# Altium schematic symbol library MCU_NXP_S08.SchLib: 189 symbols (part 3 of 3)
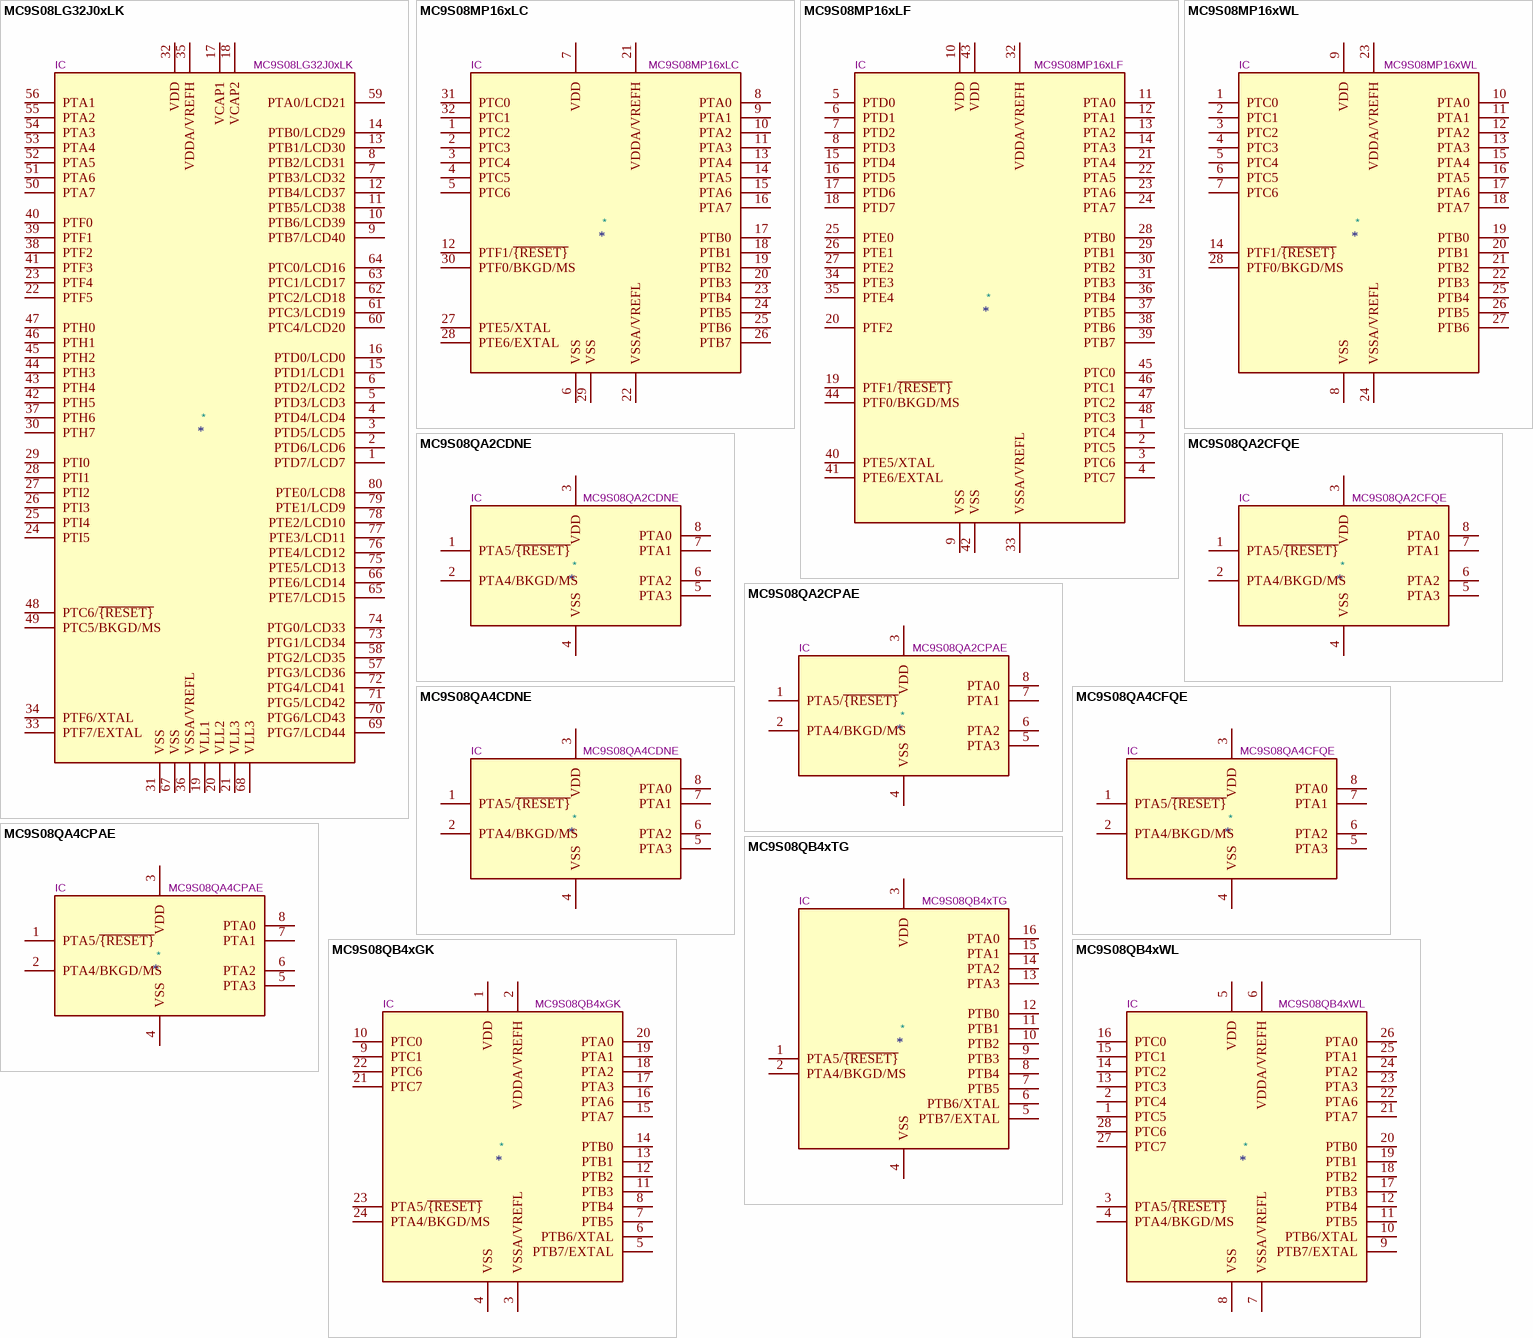
[diagram p21: symbols MC9S08LG32J0xLK to MC9S08QB4xWL]

## MC9S08QB4xTG
designator *  value MC9S08QB4xTG  Reference: IC
ki_keywords: NXP S08 Microcontroller; ki_description: 8-bit General Purpose Microcontroller, S08 core, 4kB Flash, 256B RAM, TSSOP-16; ki_fp_filters: TSSOP*4.4x5mm*P0.65mm*; Footprint: Package_SO:TSSOP-16_4.4x5mm_P0.65mm; Datasheet: https://www.nxp.com/docs/en/reference-manual/MC9S08QB8RM.pdf
pins: 1 PTA5/~{{RESET}}, 2 PTA4/BKGD/MS, 3 VDD, 4 VSS, 5 PTB7/EXTAL, 6 PTB6/XTAL, 7 PTB5, 8 PTB4, 9 PTB3, 10 PTB2, 11 PTB1, 12 PTB0, 13 PTA3, 14 PTA2, 15 PTA1, 16 PTA0

## MC9S08QB4xWL
designator *  value MC9S08QB4xWL  Reference: IC
ki_keywords: NXP S08 Microcontroller; ki_description: 8-bit General Purpose Microcontroller, S08 core, 4kB Flash, 256B RAM, SOIC-28; ki_fp_filters: SOIC*7.5x17.9mm*P1.27mm*; Footprint: Package_SO:SOIC-28W_7.5x17.9mm_P1.27mm; Datasheet: https://www.nxp.com/docs/en/reference-manual/MC9S08QB8RM.pdf
pins: 1 PTC5, 2 PTC4, 3 PTA5/~{{RESET}}, 4 PTA4/BKGD/MS, 5 VDD, 6 VDDA/VREFH, 7 VSSA/VREFL, 8 VSS, 9 PTB7/EXTAL, 10 PTB6/XTAL, 11 PTB5, 12 PTB4, 13 PTC3, 14 PTC2, 15 PTC1, 16 PTC0, 17 PTB3, 18 PTB2, 19 PTB1, 20 PTB0, 21 PTA7, 22 PTA6, 23 PTA3, 24 PTA2, 25 PTA1, 26 PTA0, 27 PTC7, 28 PTC6

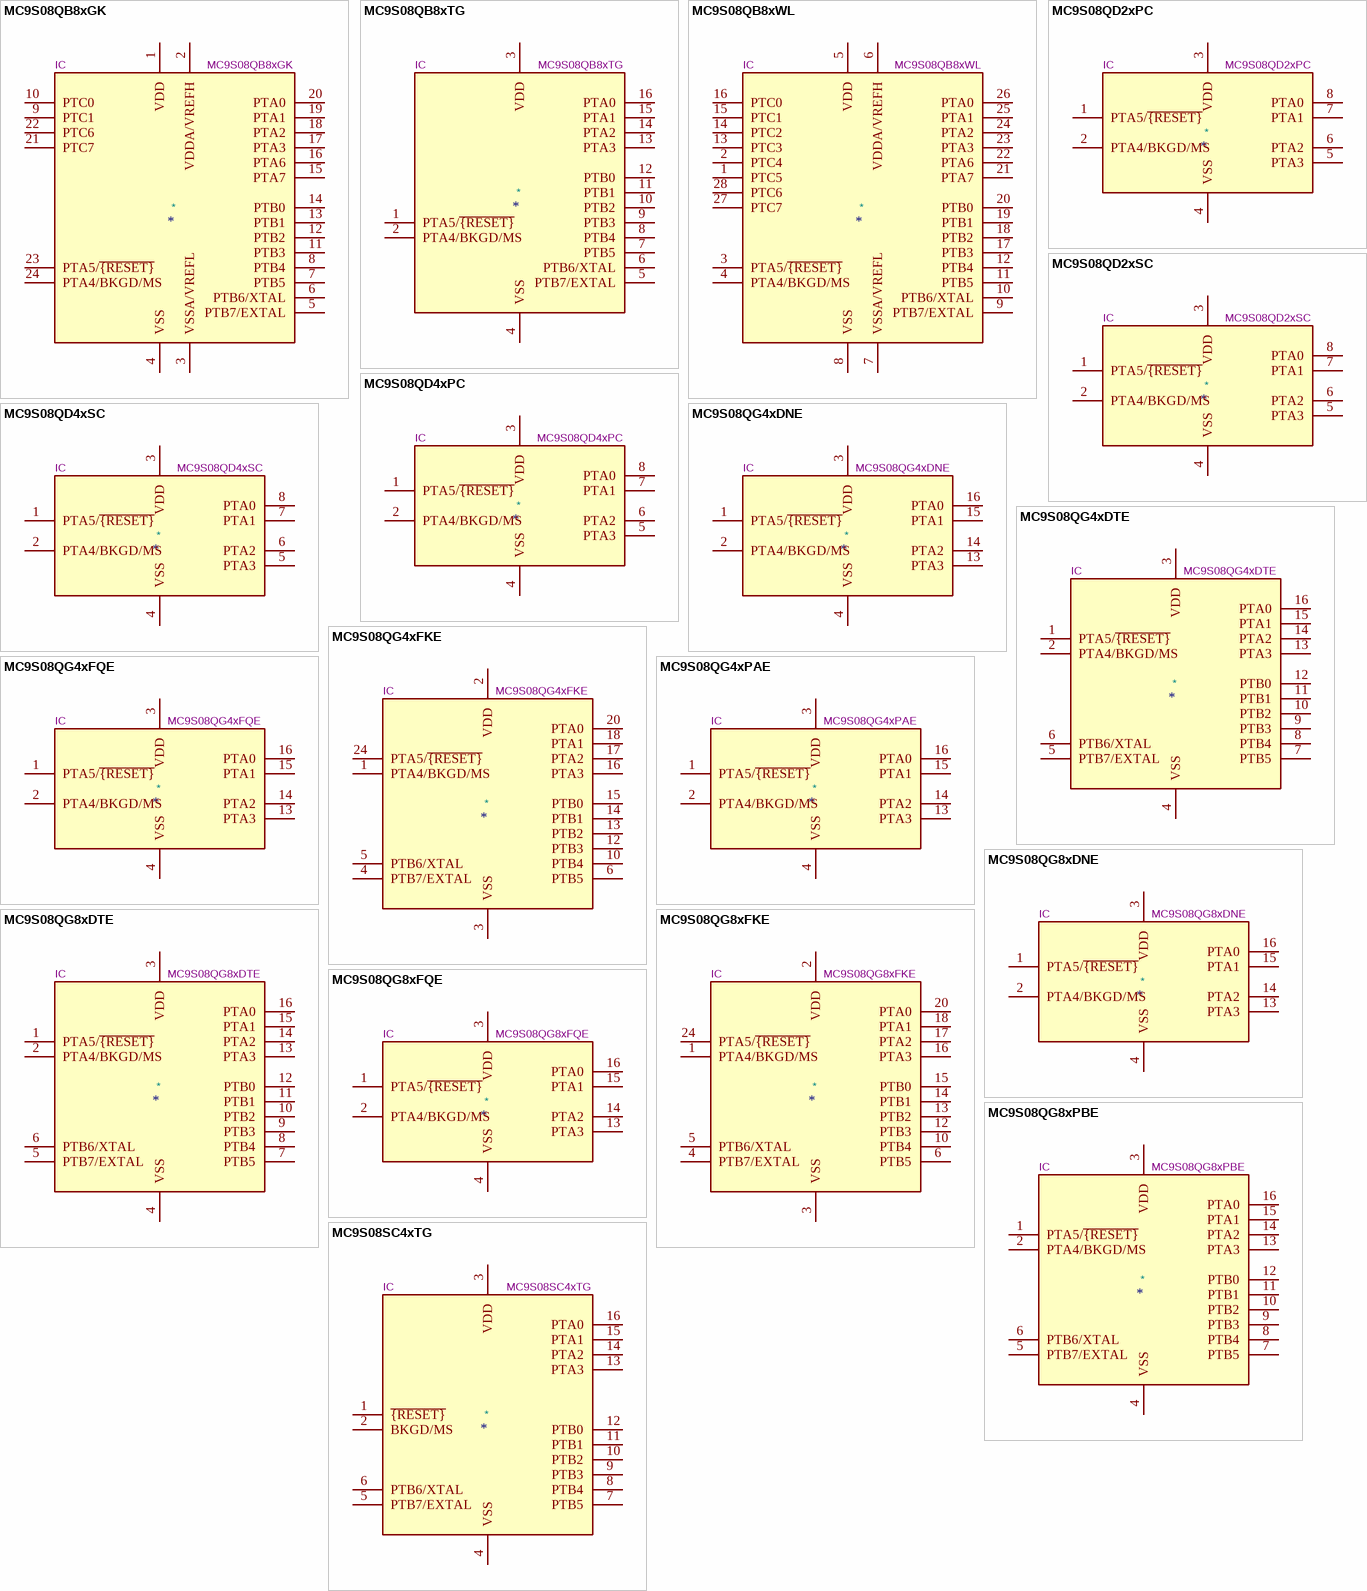
[diagram p15: symbols MC9S08QB8xGK to MC9S08SC4xTG]

## MC9S08QB8xGK
designator *  value MC9S08QB8xGK  Reference: IC
ki_keywords: NXP S08 Microcontroller; ki_description: 8-bit General Purpose Microcontroller, S08 core, 8kB Flash, 512B RAM, QFN-24; ki_fp_filters: QFN*1EP*5x5mm*P0.65mm*; Footprint: Package_DFN_QFN:QFN-24-1EP_5x5mm_P0.65mm_EP3.6x3.6mm; Datasheet: https://www.nxp.com/docs/en/reference-manual/MC9S08QB8RM.pdf
pins: 1 VDD, 2 VDDA/VREFH, 3 VSSA/VREFL, 4 VSS, 5 PTB7/EXTAL, 6 PTB6/XTAL, 7 PTB5, 8 PTB4, 9 PTC1, 10 PTC0, 11 PTB3, 12 PTB2, 13 PTB1, 14 PTB0, 15 PTA7, 16 PTA6, 17 PTA3, 18 PTA2, 19 PTA1, 20 PTA0, 21 PTC7, 22 PTC6, 23 PTA5/~{{RESET}}, 24 PTA4/BKGD/MS

## MC9S08QB8xTG
designator *  value MC9S08QB8xTG  Reference: IC
ki_keywords: NXP S08 Microcontroller; ki_description: 8-bit General Purpose Microcontroller, S08 core, 8kB Flash, 512B RAM, TSSOP-16; ki_fp_filters: TSSOP*4.4x5mm*P0.65mm*; Footprint: Package_SO:TSSOP-16_4.4x5mm_P0.65mm; Datasheet: https://www.nxp.com/docs/en/reference-manual/MC9S08QB8RM.pdf
pins: 1 PTA5/~{{RESET}}, 2 PTA4/BKGD/MS, 3 VDD, 4 VSS, 5 PTB7/EXTAL, 6 PTB6/XTAL, 7 PTB5, 8 PTB4, 9 PTB3, 10 PTB2, 11 PTB1, 12 PTB0, 13 PTA3, 14 PTA2, 15 PTA1, 16 PTA0

## MC9S08QB8xWL
designator *  value MC9S08QB8xWL  Reference: IC
ki_keywords: NXP S08 Microcontroller; ki_description: 8-bit General Purpose Microcontroller, S08 core, 8kB Flash, 512B RAM, SOIC-28; ki_fp_filters: SOIC*7.5x17.9mm*P1.27mm*; Footprint: Package_SO:SOIC-28W_7.5x17.9mm_P1.27mm; Datasheet: https://www.nxp.com/docs/en/reference-manual/MC9S08QB8RM.pdf
pins: 1 PTC5, 2 PTC4, 3 PTA5/~{{RESET}}, 4 PTA4/BKGD/MS, 5 VDD, 6 VDDA/VREFH, 7 VSSA/VREFL, 8 VSS, 9 PTB7/EXTAL, 10 PTB6/XTAL, 11 PTB5, 12 PTB4, 13 PTC3, 14 PTC2, 15 PTC1, 16 PTC0, 17 PTB3, 18 PTB2, 19 PTB1, 20 PTB0, 21 PTA7, 22 PTA6, 23 PTA3, 24 PTA2, 25 PTA1, 26 PTA0, 27 PTC7, 28 PTC6

## MC9S08QD2xPC
designator *  value MC9S08QD2xPC  Reference: IC
ki_keywords: NXP S08 Microcontroller; ki_description: 8-bit Small Package Microcontroller, S08 core, 2kB Flash, 128B RAM, DIP-8; ki_fp_filters: DIP*7.62mm*; Footprint: Package_DIP:DIP-8_W7.62mm; Datasheet: https://www.nxp.com/docs/en/data-sheet/MC9S08QD4.pdf
pins: 1 PTA5/~{{RESET}}, 2 PTA4/BKGD/MS, 3 VDD, 4 VSS, 5 PTA3, 6 PTA2, 7 PTA1, 8 PTA0

## MC9S08QD2xSC
designator *  value MC9S08QD2xSC  Reference: IC
ki_keywords: NXP S08 Microcontroller; ki_description: 8-bit Small Package Microcontroller, S08 core, 2kB Flash, 128B RAM, SOIC-8; ki_fp_filters: SOIC*3.9x4.9mm*P1.27mm*; Footprint: Package_SO:SOIC-8_3.9x4.9mm_P1.27mm; Datasheet: https://www.nxp.com/docs/en/data-sheet/MC9S08QD4.pdf
pins: 1 PTA5/~{{RESET}}, 2 PTA4/BKGD/MS, 3 VDD, 4 VSS, 5 PTA3, 6 PTA2, 7 PTA1, 8 PTA0

## MC9S08QD4xPC
designator *  value MC9S08QD4xPC  Reference: IC
ki_keywords: NXP S08 Microcontroller; ki_description: 8-bit Small Package Microcontroller, S08 core, 4kB Flash, 256B RAM, DIP-8; ki_fp_filters: DIP*7.62mm*; Footprint: Package_DIP:DIP-8_W7.62mm; Datasheet: https://www.nxp.com/docs/en/data-sheet/MC9S08QD4.pdf
pins: 1 PTA5/~{{RESET}}, 2 PTA4/BKGD/MS, 3 VDD, 4 VSS, 5 PTA3, 6 PTA2, 7 PTA1, 8 PTA0

## MC9S08QD4xSC
designator *  value MC9S08QD4xSC  Reference: IC
ki_keywords: NXP S08 Microcontroller; ki_description: 8-bit Small Package Microcontroller, S08 core, 4kB Flash, 256B RAM, SOIC-8; ki_fp_filters: SOIC*3.9x4.9mm*P1.27mm*; Footprint: Package_SO:SOIC-8_3.9x4.9mm_P1.27mm; Datasheet: https://www.nxp.com/docs/en/data-sheet/MC9S08QD4.pdf
pins: 1 PTA5/~{{RESET}}, 2 PTA4/BKGD/MS, 3 VDD, 4 VSS, 5 PTA3, 6 PTA2, 7 PTA1, 8 PTA0

## MC9S08QG4xDNE
designator *  value MC9S08QG4xDNE  Reference: IC
ki_keywords: NXP S08 Microcontroller; ki_description: 8-bit Small Package Microcontroller, S08 core, 4kB Flash, 256B RAM, SOIC-8; ki_fp_filters: SOIC*3.9x4.9mm*P1.27mm*; Footprint: Package_SO:SOIC-8_3.9x4.9mm_P1.27mm; Datasheet: https://www.nxp.com/docs/en/data-sheet/MC9S08QG8.pdf
pins: 1 PTA5/~{{RESET}}, 2 PTA4/BKGD/MS, 3 VDD, 4 VSS, 13 PTA3, 14 PTA2, 15 PTA1, 16 PTA0

## MC9S08QG4xDTE
designator *  value MC9S08QG4xDTE  Reference: IC
ki_keywords: NXP S08 Microcontroller; ki_description: 8-bit Small Package Microcontroller, S08 core, 4kB Flash, 256B RAM, TSSOP-16; ki_fp_filters: TSSOP*4.4x5mm*P0.65mm*; Footprint: Package_SO:TSSOP-16_4.4x5mm_P0.65mm; Datasheet: https://www.nxp.com/docs/en/data-sheet/MC9S08QG8.pdf
pins: 1 PTA5/~{{RESET}}, 2 PTA4/BKGD/MS, 3 VDD, 4 VSS, 5 PTB7/EXTAL, 6 PTB6/XTAL, 7 PTB5, 8 PTB4, 9 PTB3, 10 PTB2, 11 PTB1, 12 PTB0, 13 PTA3, 14 PTA2, 15 PTA1, 16 PTA0

## MC9S08QG4xFKE
designator *  value MC9S08QG4xFKE  Reference: IC
ki_keywords: NXP S08 Microcontroller; ki_description: 8-bit Small Package Microcontroller, S08 core, 4kB Flash, 256B RAM, QFN-24; ki_fp_filters: QFN*4x4mm*P0.5mm*; Footprint: Package_DFN_QFN:QFN-24-1EP_4x4mm_P0.5mm_EP2.6x2.6mm; Datasheet: https://www.nxp.com/docs/en/data-sheet/MC9S08QG8.pdf
pins: 1 PTA4/BKGD/MS, 2 VDD, 3 VSS, 4 PTB7/EXTAL, 5 PTB6/XTAL, 6 PTB5, 10 PTB4, 12 PTB3, 13 PTB2, 14 PTB1, 15 PTB0, 16 PTA3, 17 PTA2, 18 PTA1, 20 PTA0, 24 PTA5/~{{RESET}}

## MC9S08QG4xFQE
designator *  value MC9S08QG4xFQE  Reference: IC
ki_keywords: NXP S08 Microcontroller; ki_description: 8-bit Small Package Microcontroller, S08 core, 4kB Flash, 256B RAM, DFN-8; ki_fp_filters: DFN*4x4mm*P0.8mm*; Footprint: Package_DFN_QFN:DFN-8-1EP_4x4mm_P0.8mm_EP2.5x3.6mm; Datasheet: https://www.nxp.com/docs/en/data-sheet/MC9S08QG8.pdf
pins: 1 PTA5/~{{RESET}}, 2 PTA4/BKGD/MS, 3 VDD, 4 VSS, 13 PTA3, 14 PTA2, 15 PTA1, 16 PTA0

## MC9S08QG4xPAE
designator *  value MC9S08QG4xPAE  Reference: IC
ki_keywords: NXP S08 Microcontroller; ki_description: 8-bit Small Package Microcontroller, S08 core, 4kB Flash, 256B RAM, DIP-8; ki_fp_filters: DIP*7.62mm*; Footprint: Package_DIP:DIP-8_W7.62mm; Datasheet: https://www.nxp.com/docs/en/data-sheet/MC9S08QG8.pdf
pins: 1 PTA5/~{{RESET}}, 2 PTA4/BKGD/MS, 3 VDD, 4 VSS, 13 PTA3, 14 PTA2, 15 PTA1, 16 PTA0

## MC9S08QG8xDNE
designator *  value MC9S08QG8xDNE  Reference: IC
ki_keywords: NXP S08 Microcontroller; ki_description: 8-bit Small Package Microcontroller, S08 core, 8kB Flash, 512B RAM, SOIC-8; ki_fp_filters: SOIC*3.9x4.9mm*P1.27mm*; Footprint: Package_SO:SOIC-8_3.9x4.9mm_P1.27mm; Datasheet: https://www.nxp.com/docs/en/data-sheet/MC9S08QG8.pdf
pins: 1 PTA5/~{{RESET}}, 2 PTA4/BKGD/MS, 3 VDD, 4 VSS, 13 PTA3, 14 PTA2, 15 PTA1, 16 PTA0

## MC9S08QG8xDTE
designator *  value MC9S08QG8xDTE  Reference: IC
ki_keywords: NXP S08 Microcontroller; ki_description: 8-bit Small Package Microcontroller, S08 core, 8kB Flash, 512B RAM, TSSOP-16; ki_fp_filters: TSSOP*4.4x5mm*P0.65mm*; Footprint: Package_SO:TSSOP-16_4.4x5mm_P0.65mm; Datasheet: https://www.nxp.com/docs/en/data-sheet/MC9S08QG8.pdf
pins: 1 PTA5/~{{RESET}}, 2 PTA4/BKGD/MS, 3 VDD, 4 VSS, 5 PTB7/EXTAL, 6 PTB6/XTAL, 7 PTB5, 8 PTB4, 9 PTB3, 10 PTB2, 11 PTB1, 12 PTB0, 13 PTA3, 14 PTA2, 15 PTA1, 16 PTA0

## MC9S08QG8xFKE
designator *  value MC9S08QG8xFKE  Reference: IC
ki_keywords: NXP S08 Microcontroller; ki_description: 8-bit Small Package Microcontroller, S08 core, 8kB Flash, 512B RAM, QFN-24; ki_fp_filters: QFN*4x4mm*P0.5mm*; Footprint: Package_DFN_QFN:QFN-24-1EP_4x4mm_P0.5mm_EP2.6x2.6mm; Datasheet: https://www.nxp.com/docs/en/data-sheet/MC9S08QG8.pdf
pins: 1 PTA4/BKGD/MS, 2 VDD, 3 VSS, 4 PTB7/EXTAL, 5 PTB6/XTAL, 6 PTB5, 10 PTB4, 12 PTB3, 13 PTB2, 14 PTB1, 15 PTB0, 16 PTA3, 17 PTA2, 18 PTA1, 20 PTA0, 24 PTA5/~{{RESET}}

## MC9S08QG8xFQE
designator *  value MC9S08QG8xFQE  Reference: IC
ki_keywords: NXP S08 Microcontroller; ki_description: 8-bit Small Package Microcontroller, S08 core, 8kB Flash, 512B RAM, DFN-8; ki_fp_filters: DFN*4x4mm*P0.8mm*; Footprint: Package_DFN_QFN:DFN-8-1EP_4x4mm_P0.8mm_EP2.5x3.6mm; Datasheet: https://www.nxp.com/docs/en/data-sheet/MC9S08QG8.pdf
pins: 1 PTA5/~{{RESET}}, 2 PTA4/BKGD/MS, 3 VDD, 4 VSS, 13 PTA3, 14 PTA2, 15 PTA1, 16 PTA0

## MC9S08QG8xPBE
designator *  value MC9S08QG8xPBE  Reference: IC
ki_keywords: NXP S08 Microcontroller; ki_description: 8-bit Small Package Microcontroller, S08 core, 8kB Flash, 512B RAM, DIP-16; ki_fp_filters: DIP*7.62mm*; Footprint: Package_DIP:DIP-16_W7.62mm; Datasheet: https://www.nxp.com/docs/en/data-sheet/MC9S08QG8.pdf
pins: 1 PTA5/~{{RESET}}, 2 PTA4/BKGD/MS, 3 VDD, 4 VSS, 5 PTB7/EXTAL, 6 PTB6/XTAL, 7 PTB5, 8 PTB4, 9 PTB3, 10 PTB2, 11 PTB1, 12 PTB0, 13 PTA3, 14 PTA2, 15 PTA1, 16 PTA0

## MC9S08SC4xTG
designator *  value MC9S08SC4xTG  Reference: IC
ki_keywords: NXP S08 Microcontroller; ki_description: 8-bit Small Package Microcontroller, S08 core, 4kB Flash, 256B RAM, TSSOP-16; ki_fp_filters: TSSOP*4.4x5mm*P0.65mm*; Footprint: Package_SO:TSSOP-16_4.4x5mm_P0.65mm; Datasheet: https://www.nxp.com/docs/en/data-sheet/MC9S08SC4.pdf
pins: 1 ~{{RESET}}, 2 BKGD/MS, 3 VDD, 4 VSS, 5 PTB7/EXTAL, 6 PTB6/XTAL, 7 PTB5, 8 PTB4, 9 PTB3, 10 PTB2, 11 PTB1, 12 PTB0, 13 PTA3, 14 PTA2, 15 PTA1, 16 PTA0

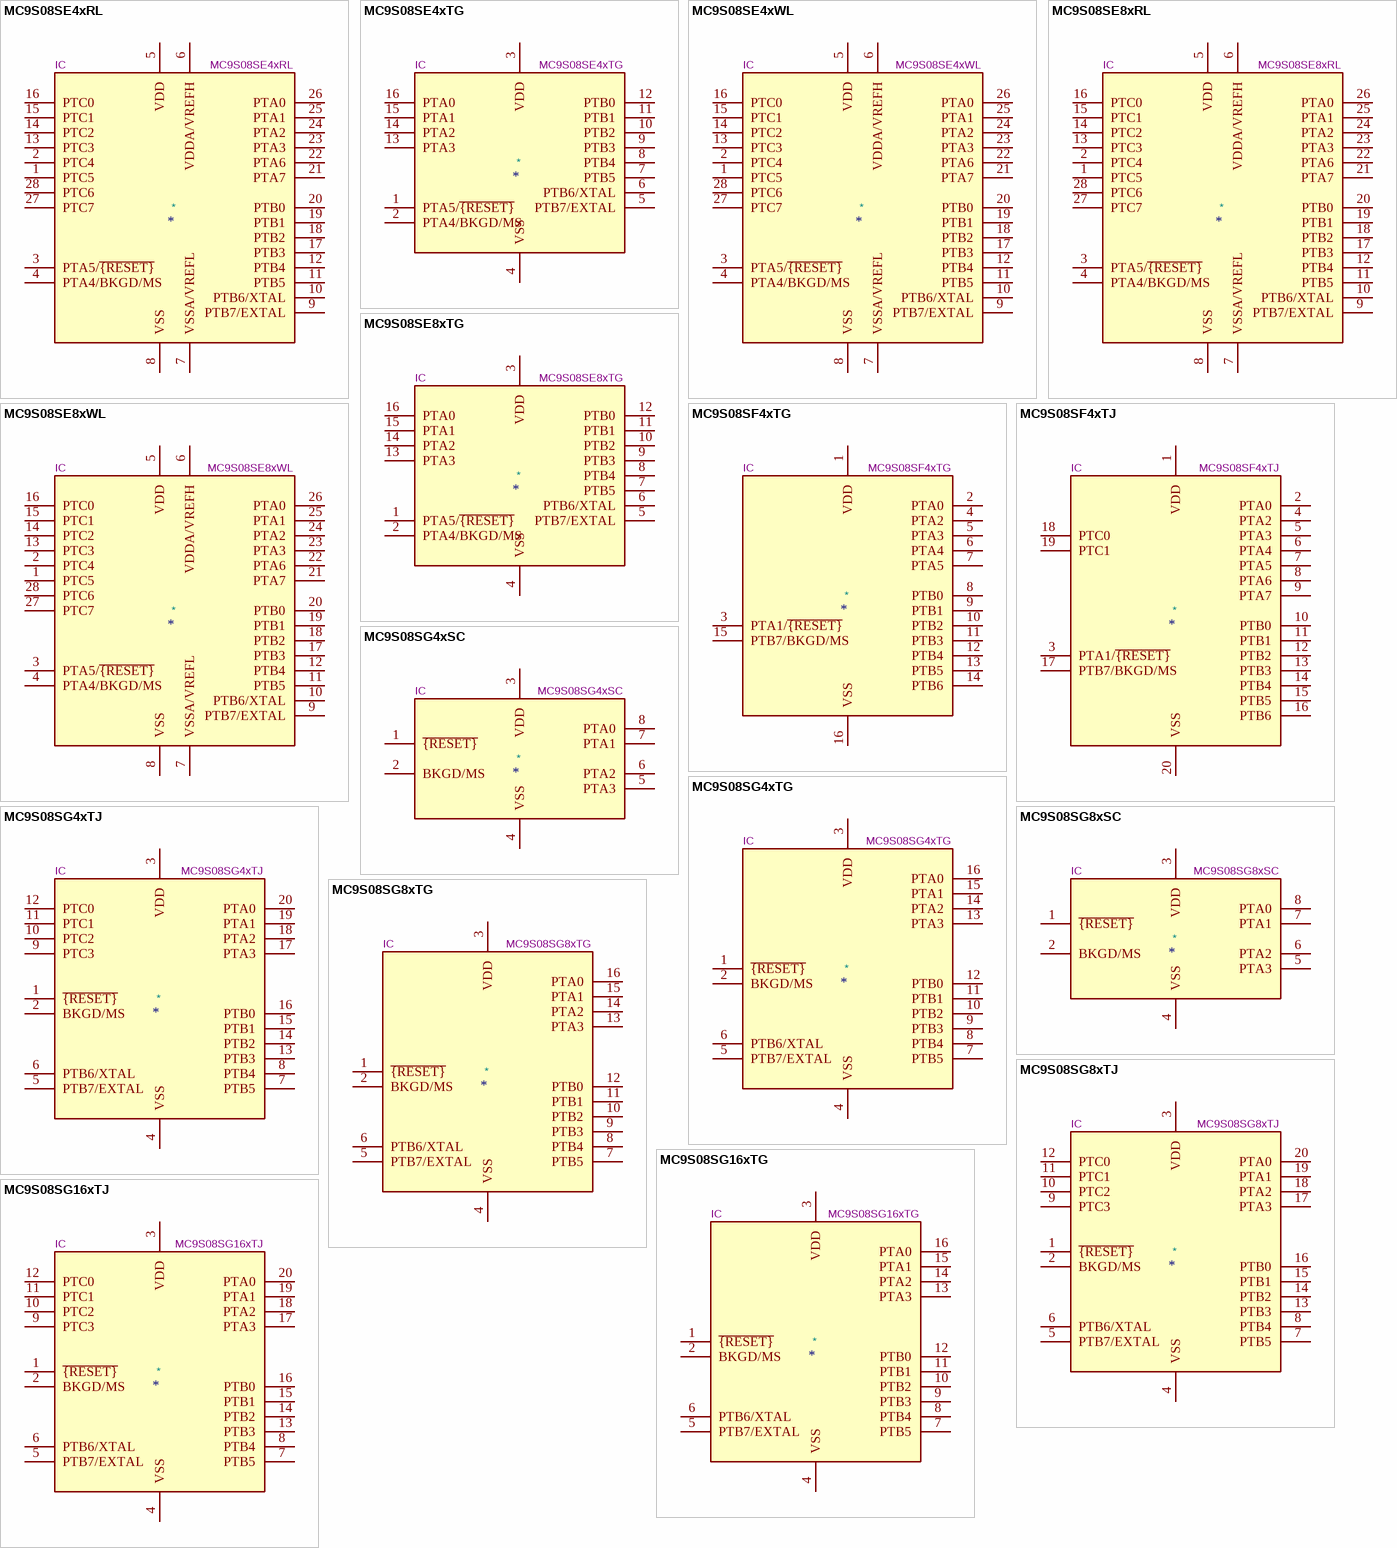
[diagram p16: symbols MC9S08SE4xRL to MC9S08SG16xTJ]

## MC9S08SE4xRL
designator *  value MC9S08SE4xRL  Reference: IC
ki_keywords: NXP S08 Microcontroller; ki_description: 8-bit General Purpose Microcontroller, S08 core, 4kB Flash, 256B RAM, DIP-28; ki_fp_filters: DIP*15.24mm*; Footprint: Package_DIP:DIP-28_W15.24mm; Datasheet: https://www.nxp.com/docs/en/reference-manual/MC9S08SE8RM.pdf
pins: 1 PTC5, 2 PTC4, 3 PTA5/~{{RESET}}, 4 PTA4/BKGD/MS, 5 VDD, 6 VDDA/VREFH, 7 VSSA/VREFL, 8 VSS, 9 PTB7/EXTAL, 10 PTB6/XTAL, 11 PTB5, 12 PTB4, 13 PTC3, 14 PTC2, 15 PTC1, 16 PTC0, 17 PTB3, 18 PTB2, 19 PTB1, 20 PTB0, 21 PTA7, 22 PTA6, 23 PTA3, 24 PTA2, 25 PTA1, 26 PTA0, 27 PTC7, 28 PTC6

## MC9S08SE4xTG
designator *  value MC9S08SE4xTG  Reference: IC
ki_keywords: NXP S08 Microcontroller; ki_description: 8-bit General Purpose Microcontroller, S08 core, 4kB Flash, 256B RAM, TSSOP-16; ki_fp_filters: TSSOP*4.4x5mm*P0.65mm*; Footprint: Package_SO:TSSOP-16_4.4x5mm_P0.65mm; Datasheet: https://www.nxp.com/docs/en/reference-manual/MC9S08SE8RM.pdf
pins: 1 PTA5/~{{RESET}}, 2 PTA4/BKGD/MS, 3 VDD, 4 VSS, 5 PTB7/EXTAL, 6 PTB6/XTAL, 7 PTB5, 8 PTB4, 9 PTB3, 10 PTB2, 11 PTB1, 12 PTB0, 13 PTA3, 14 PTA2, 15 PTA1, 16 PTA0

## MC9S08SE4xWL
designator *  value MC9S08SE4xWL  Reference: IC
ki_keywords: NXP S08 Microcontroller; ki_description: 8-bit General Purpose Microcontroller, S08 core, 4kB Flash, 256B RAM, SOIC-28; ki_fp_filters: SOIC*7.5x17.9mm*P1.27mm*; Footprint: Package_SO:SOIC-28W_7.5x17.9mm_P1.27mm; Datasheet: https://www.nxp.com/docs/en/reference-manual/MC9S08SE8RM.pdf
pins: 1 PTC5, 2 PTC4, 3 PTA5/~{{RESET}}, 4 PTA4/BKGD/MS, 5 VDD, 6 VDDA/VREFH, 7 VSSA/VREFL, 8 VSS, 9 PTB7/EXTAL, 10 PTB6/XTAL, 11 PTB5, 12 PTB4, 13 PTC3, 14 PTC2, 15 PTC1, 16 PTC0, 17 PTB3, 18 PTB2, 19 PTB1, 20 PTB0, 21 PTA7, 22 PTA6, 23 PTA3, 24 PTA2, 25 PTA1, 26 PTA0, 27 PTC7, 28 PTC6

## MC9S08SE8xRL
designator *  value MC9S08SE8xRL  Reference: IC
ki_keywords: NXP S08 Microcontroller; ki_description: 8-bit General Purpose Microcontroller, S08 core, 8kB Flash, 512B RAM, DIP-28; ki_fp_filters: DIP*15.24mm*; Footprint: Package_DIP:DIP-28_W15.24mm; Datasheet: https://www.nxp.com/docs/en/reference-manual/MC9S08SE8RM.pdf
pins: 1 PTC5, 2 PTC4, 3 PTA5/~{{RESET}}, 4 PTA4/BKGD/MS, 5 VDD, 6 VDDA/VREFH, 7 VSSA/VREFL, 8 VSS, 9 PTB7/EXTAL, 10 PTB6/XTAL, 11 PTB5, 12 PTB4, 13 PTC3, 14 PTC2, 15 PTC1, 16 PTC0, 17 PTB3, 18 PTB2, 19 PTB1, 20 PTB0, 21 PTA7, 22 PTA6, 23 PTA3, 24 PTA2, 25 PTA1, 26 PTA0, 27 PTC7, 28 PTC6

## MC9S08SE8xTG
designator *  value MC9S08SE8xTG  Reference: IC
ki_keywords: NXP S08 Microcontroller; ki_description: 8-bit General Purpose Microcontroller, S08 core, 8kB Flash, 512B RAM, TSSOP-16; ki_fp_filters: TSSOP*4.4x5mm*P0.65mm*; Footprint: Package_SO:TSSOP-16_4.4x5mm_P0.65mm; Datasheet: https://www.nxp.com/docs/en/reference-manual/MC9S08SE8RM.pdf
pins: 1 PTA5/~{{RESET}}, 2 PTA4/BKGD/MS, 3 VDD, 4 VSS, 5 PTB7/EXTAL, 6 PTB6/XTAL, 7 PTB5, 8 PTB4, 9 PTB3, 10 PTB2, 11 PTB1, 12 PTB0, 13 PTA3, 14 PTA2, 15 PTA1, 16 PTA0

## MC9S08SE8xWL
designator *  value MC9S08SE8xWL  Reference: IC
ki_keywords: NXP S08 Microcontroller; ki_description: 8-bit General Purpose Microcontroller, S08 core, 8kB Flash, 512B RAM, SOIC-28; ki_fp_filters: SOIC*7.5x17.9mm*P1.27mm*; Footprint: Package_SO:SOIC-28W_7.5x17.9mm_P1.27mm; Datasheet: https://www.nxp.com/docs/en/reference-manual/MC9S08SE8RM.pdf
pins: 1 PTC5, 2 PTC4, 3 PTA5/~{{RESET}}, 4 PTA4/BKGD/MS, 5 VDD, 6 VDDA/VREFH, 7 VSSA/VREFL, 8 VSS, 9 PTB7/EXTAL, 10 PTB6/XTAL, 11 PTB5, 12 PTB4, 13 PTC3, 14 PTC2, 15 PTC1, 16 PTC0, 17 PTB3, 18 PTB2, 19 PTB1, 20 PTB0, 21 PTA7, 22 PTA6, 23 PTA3, 24 PTA2, 25 PTA1, 26 PTA0, 27 PTC7, 28 PTC6

## MC9S08SF4xTG
designator *  value MC9S08SF4xTG  Reference: IC
ki_keywords: NXP S08 Microcontroller; ki_description: 8-bit Motor Control Microcontroller, S08 core, 4kB Flash, 128B RAM, TSSOP-20; ki_fp_filters: TSSOP*4.4x5mm*P0.65mm*; Footprint: Package_SO:TSSOP-16_4.4x5mm_P0.65mm; Datasheet: https://www.nxp.com/docs/en/reference-manual/MC9S08SF4RM.pdf
pins: 1 VDD, 2 PTA0, 3 PTA1/~{{RESET}}, 4 PTA2, 5 PTA3, 6 PTA4, 7 PTA5, 8 PTB0, 9 PTB1, 10 PTB2, 11 PTB3, 12 PTB4, 13 PTB5, 14 PTB6, 15 PTB7/BKGD/MS, 16 VSS

## MC9S08SF4xTJ
designator *  value MC9S08SF4xTJ  Reference: IC
ki_keywords: NXP S08 Microcontroller; ki_description: 8-bit Motor Control Microcontroller, S08 core, 4kB Flash, 128B RAM, TSSOP-20; ki_fp_filters: TSSOP*4.4x6.5mm*P0.65mm*; Footprint: Package_SO:TSSOP-20_4.4x6.5mm_P0.65mm; Datasheet: https://www.nxp.com/docs/en/reference-manual/MC9S08SF4RM.pdf
pins: 1 VDD, 2 PTA0, 3 PTA1/~{{RESET}}, 4 PTA2, 5 PTA3, 6 PTA4, 7 PTA5, 8 PTA6, 9 PTA7, 10 PTB0, 11 PTB1, 12 PTB2, 13 PTB3, 14 PTB4, 15 PTB5, 16 PTB6, 17 PTB7/BKGD/MS, 18 PTC0, 19 PTC1, 20 VSS

## MC9S08SG4xSC
designator *  value MC9S08SG4xSC  Reference: IC
ki_keywords: NXP S08 Microcontroller; ki_description: 8-bit Small Package Microcontroller, S08 core, 4kB Flash, 256B RAM, SOIC-8; ki_fp_filters: SOIC*3.9x4.9mm*P1.27mm*; Footprint: Package_SO:SOIC-8_3.9x4.9mm_P1.27mm; Datasheet: https://www.nxp.com/docs/en/data-sheet/MC9S08SG8.pdf
pins: 1 ~{{RESET}}, 2 BKGD/MS, 3 VDD, 4 VSS, 5 PTA3, 6 PTA2, 7 PTA1, 8 PTA0

## MC9S08SG4xTG
designator *  value MC9S08SG4xTG  Reference: IC
ki_keywords: NXP S08 Microcontroller; ki_description: 8-bit Small Package Microcontroller, S08 core, 4kB Flash, 256B RAM, TSSOP-16; ki_fp_filters: TSSOP*4.4x5mm*P0.65mm*; Footprint: Package_SO:TSSOP-16_4.4x5mm_P0.65mm; Datasheet: https://www.nxp.com/docs/en/data-sheet/MC9S08SG8.pdf
pins: 1 ~{{RESET}}, 2 BKGD/MS, 3 VDD, 4 VSS, 5 PTB7/EXTAL, 6 PTB6/XTAL, 7 PTB5, 8 PTB4, 9 PTB3, 10 PTB2, 11 PTB1, 12 PTB0, 13 PTA3, 14 PTA2, 15 PTA1, 16 PTA0

## MC9S08SG4xTJ
designator *  value MC9S08SG4xTJ  Reference: IC
ki_keywords: NXP S08 Microcontroller; ki_description: 8-bit Small Package Microcontroller, S08 core, 4kB Flash, 256B RAM, TSSOP-20; ki_fp_filters: TSSOP*4.4x6.5mm*P0.65mm*; Footprint: Package_SO:TSSOP-20_4.4x6.5mm_P0.65mm; Datasheet: https://www.nxp.com/docs/en/data-sheet/MC9S08SG8.pdf
pins: 1 ~{{RESET}}, 2 BKGD/MS, 3 VDD, 4 VSS, 5 PTB7/EXTAL, 6 PTB6/XTAL, 7 PTB5, 8 PTB4, 9 PTC3, 10 PTC2, 11 PTC1, 12 PTC0, 13 PTB3, 14 PTB2, 15 PTB1, 16 PTB0, 17 PTA3, 18 PTA2, 19 PTA1, 20 PTA0

## MC9S08SG8xSC
designator *  value MC9S08SG8xSC  Reference: IC
ki_keywords: NXP S08 Microcontroller; ki_description: 8-bit Small Package Microcontroller, S08 core, 8kB Flash, 512B RAM, SOIC-8; ki_fp_filters: SOIC*3.9x4.9mm*P1.27mm*; Footprint: Package_SO:SOIC-8_3.9x4.9mm_P1.27mm; Datasheet: https://www.nxp.com/docs/en/data-sheet/MC9S08SG8.pdf
pins: 1 ~{{RESET}}, 2 BKGD/MS, 3 VDD, 4 VSS, 5 PTA3, 6 PTA2, 7 PTA1, 8 PTA0

## MC9S08SG8xTG
designator *  value MC9S08SG8xTG  Reference: IC
ki_keywords: NXP S08 Microcontroller; ki_description: 8-bit Small Package Microcontroller, S08 core, 8kB Flash, 512B RAM, TSSOP-16; ki_fp_filters: TSSOP*4.4x5mm*P0.65mm*; Footprint: Package_SO:TSSOP-16_4.4x5mm_P0.65mm; Datasheet: https://www.nxp.com/docs/en/data-sheet/MC9S08SG8.pdf
pins: 1 ~{{RESET}}, 2 BKGD/MS, 3 VDD, 4 VSS, 5 PTB7/EXTAL, 6 PTB6/XTAL, 7 PTB5, 8 PTB4, 9 PTB3, 10 PTB2, 11 PTB1, 12 PTB0, 13 PTA3, 14 PTA2, 15 PTA1, 16 PTA0

## MC9S08SG8xTJ
designator *  value MC9S08SG8xTJ  Reference: IC
ki_keywords: NXP S08 Microcontroller; ki_description: 8-bit Small Package Microcontroller, S08 core, 8kB Flash, 512B RAM, TSSOP-20; ki_fp_filters: TSSOP*4.4x6.5mm*P0.65mm*; Footprint: Package_SO:TSSOP-20_4.4x6.5mm_P0.65mm; Datasheet: https://www.nxp.com/docs/en/data-sheet/MC9S08SG8.pdf
pins: 1 ~{{RESET}}, 2 BKGD/MS, 3 VDD, 4 VSS, 5 PTB7/EXTAL, 6 PTB6/XTAL, 7 PTB5, 8 PTB4, 9 PTC3, 10 PTC2, 11 PTC1, 12 PTC0, 13 PTB3, 14 PTB2, 15 PTB1, 16 PTB0, 17 PTA3, 18 PTA2, 19 PTA1, 20 PTA0

## MC9S08SG16xTG
designator *  value MC9S08SG16xTG  Reference: IC
ki_keywords: NXP S08 Microcontroller; ki_description: 8-bit Small Package Microcontroller, S08 core, 16kB Flash, 1kB RAM, TSSOP-16; ki_fp_filters: TSSOP*4.4x5mm*P0.65mm*; Footprint: Package_SO:TSSOP-16_4.4x5mm_P0.65mm; Datasheet: https://www.nxp.com/docs/en/data-sheet/MC9S08SG32.pdf
pins: 1 ~{{RESET}}, 2 BKGD/MS, 3 VDD, 4 VSS, 5 PTB7/EXTAL, 6 PTB6/XTAL, 7 PTB5, 8 PTB4, 9 PTB3, 10 PTB2, 11 PTB1, 12 PTB0, 13 PTA3, 14 PTA2, 15 PTA1, 16 PTA0

## MC9S08SG16xTJ
designator *  value MC9S08SG16xTJ  Reference: IC
ki_keywords: NXP S08 Microcontroller; ki_description: 8-bit Small Package Microcontroller, S08 core, 16kB Flash, 1kB RAM, TSSOP-20; ki_fp_filters: TSSOP*4.4x6.5mm*P0.65mm*; Footprint: Package_SO:TSSOP-20_4.4x6.5mm_P0.65mm; Datasheet: https://www.nxp.com/docs/en/data-sheet/MC9S08SG32.pdf
pins: 1 ~{{RESET}}, 2 BKGD/MS, 3 VDD, 4 VSS, 5 PTB7/EXTAL, 6 PTB6/XTAL, 7 PTB5, 8 PTB4, 9 PTC3, 10 PTC2, 11 PTC1, 12 PTC0, 13 PTB3, 14 PTB2, 15 PTB1, 16 PTB0, 17 PTA3, 18 PTA2, 19 PTA1, 20 PTA0

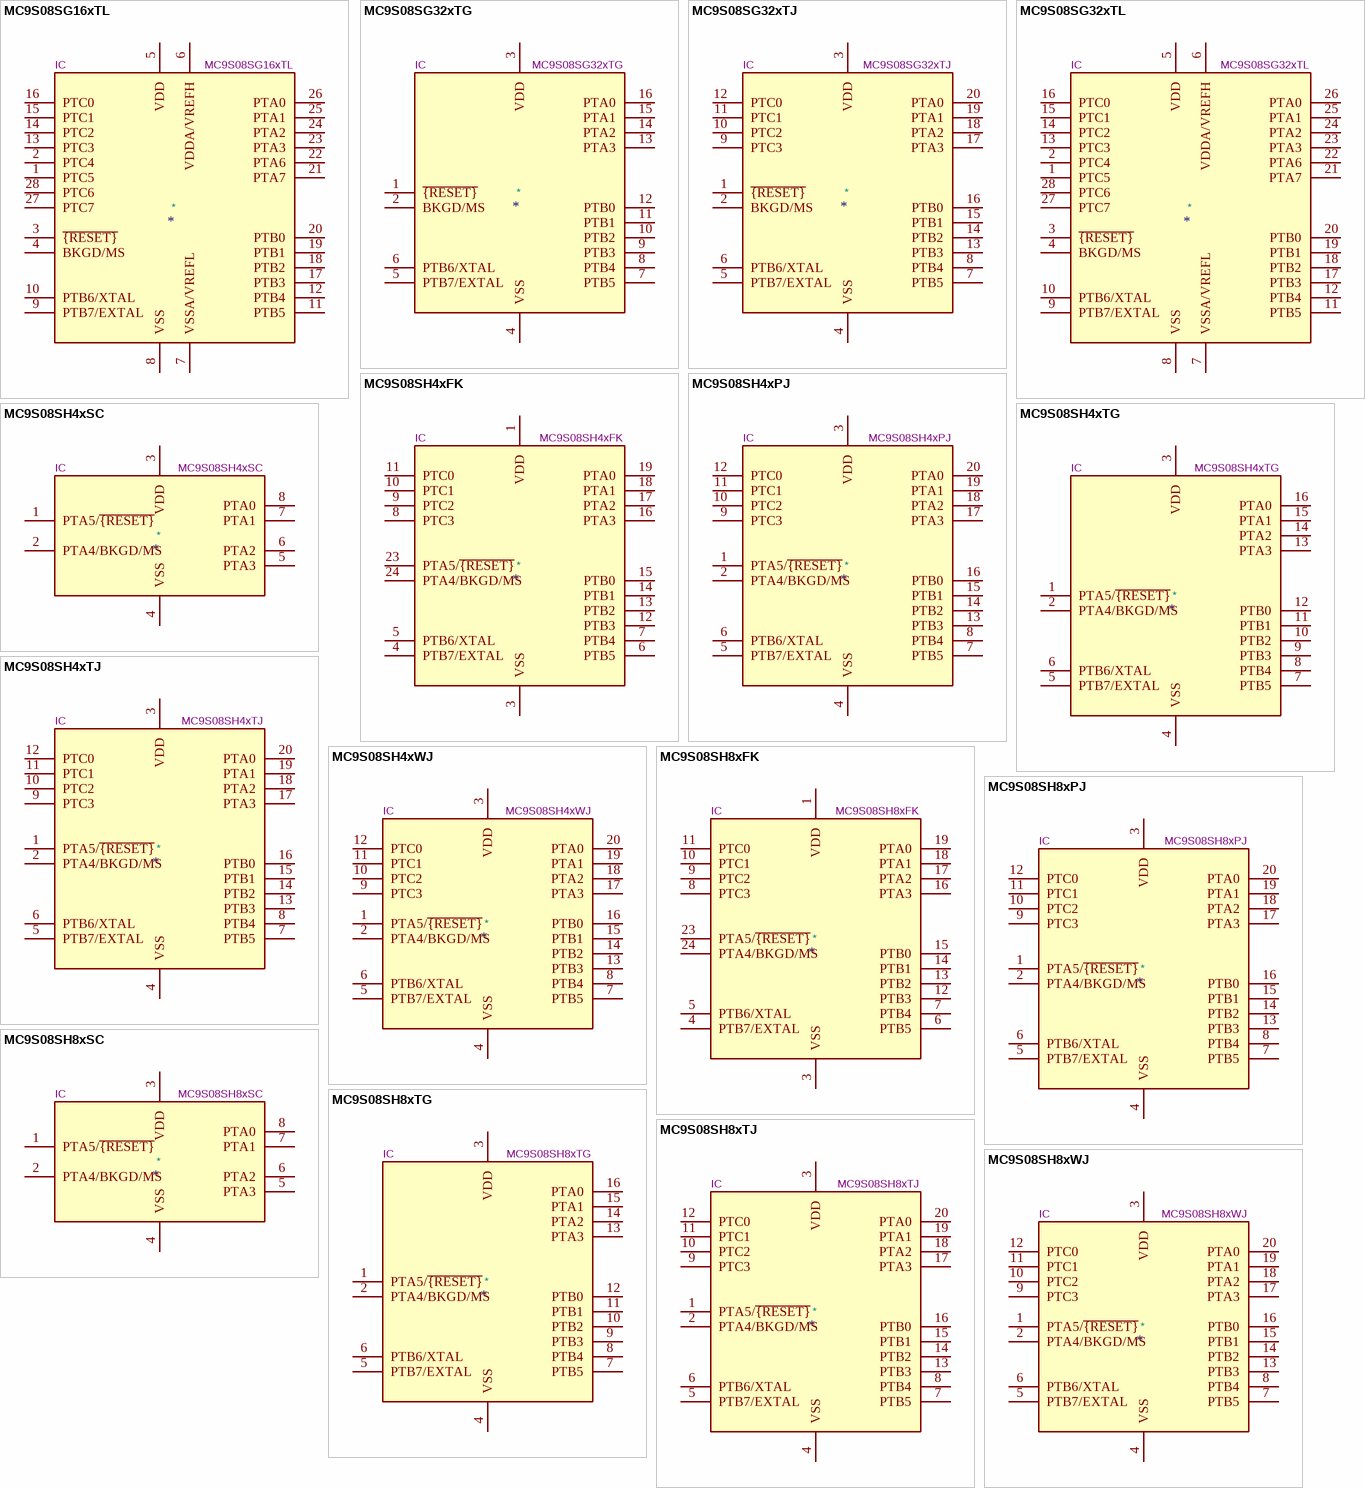
[diagram p17: symbols MC9S08SG16xTL to MC9S08SH8xWJ]

## MC9S08SG16xTL
designator *  value MC9S08SG16xTL  Reference: IC
ki_keywords: NXP S08 Microcontroller; ki_description: 8-bit Small Package Microcontroller, S08 core, 16kB Flash, 1kB RAM, TSSOP-28; ki_fp_filters: TSSOP*4.4x9.7mm*P0.65mm*; Footprint: Package_SO:TSSOP-28_4.4x9.7mm_P0.65mm; Datasheet: https://www.nxp.com/docs/en/data-sheet/MC9S08SG32.pdf
pins: 1 PTC5, 2 PTC4, 3 ~{{RESET}}, 4 BKGD/MS, 5 VDD, 6 VDDA/VREFH, 7 VSSA/VREFL, 8 VSS, 9 PTB7/EXTAL, 10 PTB6/XTAL, 11 PTB5, 12 PTB4, 13 PTC3, 14 PTC2, 15 PTC1, 16 PTC0, 17 PTB3, 18 PTB2, 19 PTB1, 20 PTB0, 21 PTA7, 22 PTA6, 23 PTA3, 24 PTA2, 25 PTA1, 26 PTA0, 27 PTC7, 28 PTC6

## MC9S08SG32xTG
designator *  value MC9S08SG32xTG  Reference: IC
ki_keywords: NXP S08 Microcontroller; ki_description: 8-bit Small Package Microcontroller, S08 core, 32kB Flash, 1kB RAM, TSSOP-16; ki_fp_filters: TSSOP*4.4x5mm*P0.65mm*; Footprint: Package_SO:TSSOP-16_4.4x5mm_P0.65mm; Datasheet: https://www.nxp.com/docs/en/data-sheet/MC9S08SG32.pdf
pins: 1 ~{{RESET}}, 2 BKGD/MS, 3 VDD, 4 VSS, 5 PTB7/EXTAL, 6 PTB6/XTAL, 7 PTB5, 8 PTB4, 9 PTB3, 10 PTB2, 11 PTB1, 12 PTB0, 13 PTA3, 14 PTA2, 15 PTA1, 16 PTA0

## MC9S08SG32xTJ
designator *  value MC9S08SG32xTJ  Reference: IC
ki_keywords: NXP S08 Microcontroller; ki_description: 8-bit Small Package Microcontroller, S08 core, 32kB Flash, 1kB RAM, TSSOP-20; ki_fp_filters: TSSOP*4.4x6.5mm*P0.65mm*; Footprint: Package_SO:TSSOP-20_4.4x6.5mm_P0.65mm; Datasheet: https://www.nxp.com/docs/en/data-sheet/MC9S08SG32.pdf
pins: 1 ~{{RESET}}, 2 BKGD/MS, 3 VDD, 4 VSS, 5 PTB7/EXTAL, 6 PTB6/XTAL, 7 PTB5, 8 PTB4, 9 PTC3, 10 PTC2, 11 PTC1, 12 PTC0, 13 PTB3, 14 PTB2, 15 PTB1, 16 PTB0, 17 PTA3, 18 PTA2, 19 PTA1, 20 PTA0

## MC9S08SG32xTL
designator *  value MC9S08SG32xTL  Reference: IC
ki_keywords: NXP S08 Microcontroller; ki_description: 8-bit Small Package Microcontroller, S08 core, 32kB Flash, 1kB RAM, TSSOP-28; ki_fp_filters: TSSOP*4.4x9.7mm*P0.65mm*; Footprint: Package_SO:TSSOP-28_4.4x9.7mm_P0.65mm; Datasheet: https://www.nxp.com/docs/en/data-sheet/MC9S08SG32.pdf
pins: 1 PTC5, 2 PTC4, 3 ~{{RESET}}, 4 BKGD/MS, 5 VDD, 6 VDDA/VREFH, 7 VSSA/VREFL, 8 VSS, 9 PTB7/EXTAL, 10 PTB6/XTAL, 11 PTB5, 12 PTB4, 13 PTC3, 14 PTC2, 15 PTC1, 16 PTC0, 17 PTB3, 18 PTB2, 19 PTB1, 20 PTB0, 21 PTA7, 22 PTA6, 23 PTA3, 24 PTA2, 25 PTA1, 26 PTA0, 27 PTC7, 28 PTC6

## MC9S08SH4xFK
designator *  value MC9S08SH4xFK  Reference: IC
ki_keywords: NXP S08 Microcontroller; ki_description: 8-bit General Purpose Microcontroller, S08 core, 4kB Flash, 256B RAM, QFN-24; ki_fp_filters: QFN*4x4mm*P0.5mm*; Footprint: Package_DFN_QFN:QFN-24-1EP_4x4mm_P0.5mm_EP2.6x2.6mm; Datasheet: https://www.nxp.com/docs/en/data-sheet/MC9S08SH8.pdf
pins: 1 VDD, 3 VSS, 4 PTB7/EXTAL, 5 PTB6/XTAL, 6 PTB5, 7 PTB4, 8 PTC3, 9 PTC2, 10 PTC1, 11 PTC0, 12 PTB3, 13 PTB2, 14 PTB1, 15 PTB0, 16 PTA3, 17 PTA2, 18 PTA1, 19 PTA0, 23 PTA5/~{{RESET}}, 24 PTA4/BKGD/MS

## MC9S08SH4xPJ
designator *  value MC9S08SH4xPJ  Reference: IC
ki_keywords: NXP S08 Microcontroller; ki_description: 8-bit General Purpose Microcontroller, S08 core, 4kB Flash, 256B RAM, DIP-20; ki_fp_filters: DIP*7.62mm*; Footprint: Package_DIP:DIP-20_W7.62mm; Datasheet: https://www.nxp.com/docs/en/data-sheet/MC9S08SH8.pdf
pins: 1 PTA5/~{{RESET}}, 2 PTA4/BKGD/MS, 3 VDD, 4 VSS, 5 PTB7/EXTAL, 6 PTB6/XTAL, 7 PTB5, 8 PTB4, 9 PTC3, 10 PTC2, 11 PTC1, 12 PTC0, 13 PTB3, 14 PTB2, 15 PTB1, 16 PTB0, 17 PTA3, 18 PTA2, 19 PTA1, 20 PTA0

## MC9S08SH4xSC
designator *  value MC9S08SH4xSC  Reference: IC
ki_keywords: NXP S08 Microcontroller; ki_description: 8-bit General Purpose Microcontroller, S08 core, 4kB Flash, 256B RAM, SOIC-8; ki_fp_filters: SOIC*3.9x4.9mm*P1.27mm*; Footprint: Package_SO:SOIC-8_3.9x4.9mm_P1.27mm; Datasheet: https://www.nxp.com/docs/en/data-sheet/MC9S08SH8.pdf
pins: 1 PTA5/~{{RESET}}, 2 PTA4/BKGD/MS, 3 VDD, 4 VSS, 5 PTA3, 6 PTA2, 7 PTA1, 8 PTA0

## MC9S08SH4xTG
designator *  value MC9S08SH4xTG  Reference: IC
ki_keywords: NXP S08 Microcontroller; ki_description: 8-bit General Purpose Microcontroller, S08 core, 4kB Flash, 256B RAM, TSSOP-16; ki_fp_filters: TSSOP*4.4x5mm*P0.65mm*; Footprint: Package_SO:TSSOP-16_4.4x5mm_P0.65mm; Datasheet: https://www.nxp.com/docs/en/data-sheet/MC9S08SH8.pdf
pins: 1 PTA5/~{{RESET}}, 2 PTA4/BKGD/MS, 3 VDD, 4 VSS, 5 PTB7/EXTAL, 6 PTB6/XTAL, 7 PTB5, 8 PTB4, 9 PTB3, 10 PTB2, 11 PTB1, 12 PTB0, 13 PTA3, 14 PTA2, 15 PTA1, 16 PTA0

## MC9S08SH4xTJ
designator *  value MC9S08SH4xTJ  Reference: IC
ki_keywords: NXP S08 Microcontroller; ki_description: 8-bit General Purpose Microcontroller, S08 core, 4kB Flash, 256B RAM, TSSOP-20; ki_fp_filters: TSSOP*4.4x6.5mm*P0.65mm*; Footprint: Package_SO:TSSOP-20_4.4x6.5mm_P0.65mm; Datasheet: https://www.nxp.com/docs/en/data-sheet/MC9S08SH8.pdf
pins: 1 PTA5/~{{RESET}}, 2 PTA4/BKGD/MS, 3 VDD, 4 VSS, 5 PTB7/EXTAL, 6 PTB6/XTAL, 7 PTB5, 8 PTB4, 9 PTC3, 10 PTC2, 11 PTC1, 12 PTC0, 13 PTB3, 14 PTB2, 15 PTB1, 16 PTB0, 17 PTA3, 18 PTA2, 19 PTA1, 20 PTA0

## MC9S08SH4xWJ
designator *  value MC9S08SH4xWJ  Reference: IC
ki_keywords: NXP S08 Microcontroller; ki_description: 8-bit General Purpose Microcontroller, S08 core, 4kB Flash, 256B RAM, SOIC-20; ki_fp_filters: SOIC*7.5x12.8mm*P1.27mm*; Footprint: Package_SO:SOIC-20W_7.5x12.8mm_P1.27mm; Datasheet: https://www.nxp.com/docs/en/data-sheet/MC9S08SH8.pdf
pins: 1 PTA5/~{{RESET}}, 2 PTA4/BKGD/MS, 3 VDD, 4 VSS, 5 PTB7/EXTAL, 6 PTB6/XTAL, 7 PTB5, 8 PTB4, 9 PTC3, 10 PTC2, 11 PTC1, 12 PTC0, 13 PTB3, 14 PTB2, 15 PTB1, 16 PTB0, 17 PTA3, 18 PTA2, 19 PTA1, 20 PTA0

## MC9S08SH8xFK
designator *  value MC9S08SH8xFK  Reference: IC
ki_keywords: NXP S08 Microcontroller; ki_description: 8-bit General Purpose Microcontroller, S08 core, 8kB Flash, 512B RAM, QFN-24; ki_fp_filters: QFN*4x4mm*P0.5mm*; Footprint: Package_DFN_QFN:QFN-24-1EP_4x4mm_P0.5mm_EP2.6x2.6mm; Datasheet: https://www.nxp.com/docs/en/data-sheet/MC9S08SH8.pdf
pins: 1 VDD, 3 VSS, 4 PTB7/EXTAL, 5 PTB6/XTAL, 6 PTB5, 7 PTB4, 8 PTC3, 9 PTC2, 10 PTC1, 11 PTC0, 12 PTB3, 13 PTB2, 14 PTB1, 15 PTB0, 16 PTA3, 17 PTA2, 18 PTA1, 19 PTA0, 23 PTA5/~{{RESET}}, 24 PTA4/BKGD/MS

## MC9S08SH8xPJ
designator *  value MC9S08SH8xPJ  Reference: IC
ki_keywords: NXP S08 Microcontroller; ki_description: 8-bit General Purpose Microcontroller, S08 core, 8kB Flash, 512B RAM, DIP-20; ki_fp_filters: DIP*7.62mm*; Footprint: Package_DIP:DIP-20_W7.62mm; Datasheet: https://www.nxp.com/docs/en/data-sheet/MC9S08SH8.pdf
pins: 1 PTA5/~{{RESET}}, 2 PTA4/BKGD/MS, 3 VDD, 4 VSS, 5 PTB7/EXTAL, 6 PTB6/XTAL, 7 PTB5, 8 PTB4, 9 PTC3, 10 PTC2, 11 PTC1, 12 PTC0, 13 PTB3, 14 PTB2, 15 PTB1, 16 PTB0, 17 PTA3, 18 PTA2, 19 PTA1, 20 PTA0

## MC9S08SH8xSC
designator *  value MC9S08SH8xSC  Reference: IC
ki_keywords: NXP S08 Microcontroller; ki_description: 8-bit General Purpose Microcontroller, S08 core, 8kB Flash, 512B RAM, SOIC-8; ki_fp_filters: SOIC*3.9x4.9mm*P1.27mm*; Footprint: Package_SO:SOIC-8_3.9x4.9mm_P1.27mm; Datasheet: https://www.nxp.com/docs/en/data-sheet/MC9S08SH8.pdf
pins: 1 PTA5/~{{RESET}}, 2 PTA4/BKGD/MS, 3 VDD, 4 VSS, 5 PTA3, 6 PTA2, 7 PTA1, 8 PTA0

## MC9S08SH8xTG
designator *  value MC9S08SH8xTG  Reference: IC
ki_keywords: NXP S08 Microcontroller; ki_description: 8-bit General Purpose Microcontroller, S08 core, 8kB Flash, 512B RAM, TSSOP-16; ki_fp_filters: TSSOP*4.4x5mm*P0.65mm*; Footprint: Package_SO:TSSOP-16_4.4x5mm_P0.65mm; Datasheet: https://www.nxp.com/docs/en/data-sheet/MC9S08SH8.pdf
pins: 1 PTA5/~{{RESET}}, 2 PTA4/BKGD/MS, 3 VDD, 4 VSS, 5 PTB7/EXTAL, 6 PTB6/XTAL, 7 PTB5, 8 PTB4, 9 PTB3, 10 PTB2, 11 PTB1, 12 PTB0, 13 PTA3, 14 PTA2, 15 PTA1, 16 PTA0

## MC9S08SH8xTJ
designator *  value MC9S08SH8xTJ  Reference: IC
ki_keywords: NXP S08 Microcontroller; ki_description: 8-bit General Purpose Microcontroller, S08 core, 8kB Flash, 512B RAM, TSSOP-20; ki_fp_filters: TSSOP*4.4x6.5mm*P0.65mm*; Footprint: Package_SO:TSSOP-20_4.4x6.5mm_P0.65mm; Datasheet: https://www.nxp.com/docs/en/data-sheet/MC9S08SH8.pdf
pins: 1 PTA5/~{{RESET}}, 2 PTA4/BKGD/MS, 3 VDD, 4 VSS, 5 PTB7/EXTAL, 6 PTB6/XTAL, 7 PTB5, 8 PTB4, 9 PTC3, 10 PTC2, 11 PTC1, 12 PTC0, 13 PTB3, 14 PTB2, 15 PTB1, 16 PTB0, 17 PTA3, 18 PTA2, 19 PTA1, 20 PTA0

## MC9S08SH8xWJ
designator *  value MC9S08SH8xWJ  Reference: IC
ki_keywords: NXP S08 Microcontroller; ki_description: 8-bit General Purpose Microcontroller, S08 core, 8kB Flash, 512B RAM, SOIC-20; ki_fp_filters: SOIC*7.5x12.8mm*P1.27mm*; Footprint: Package_SO:SOIC-20W_7.5x12.8mm_P1.27mm; Datasheet: https://www.nxp.com/docs/en/data-sheet/MC9S08SH8.pdf
pins: 1 PTA5/~{{RESET}}, 2 PTA4/BKGD/MS, 3 VDD, 4 VSS, 5 PTB7/EXTAL, 6 PTB6/XTAL, 7 PTB5, 8 PTB4, 9 PTC3, 10 PTC2, 11 PTC1, 12 PTC0, 13 PTB3, 14 PTB2, 15 PTB1, 16 PTB0, 17 PTA3, 18 PTA2, 19 PTA1, 20 PTA0

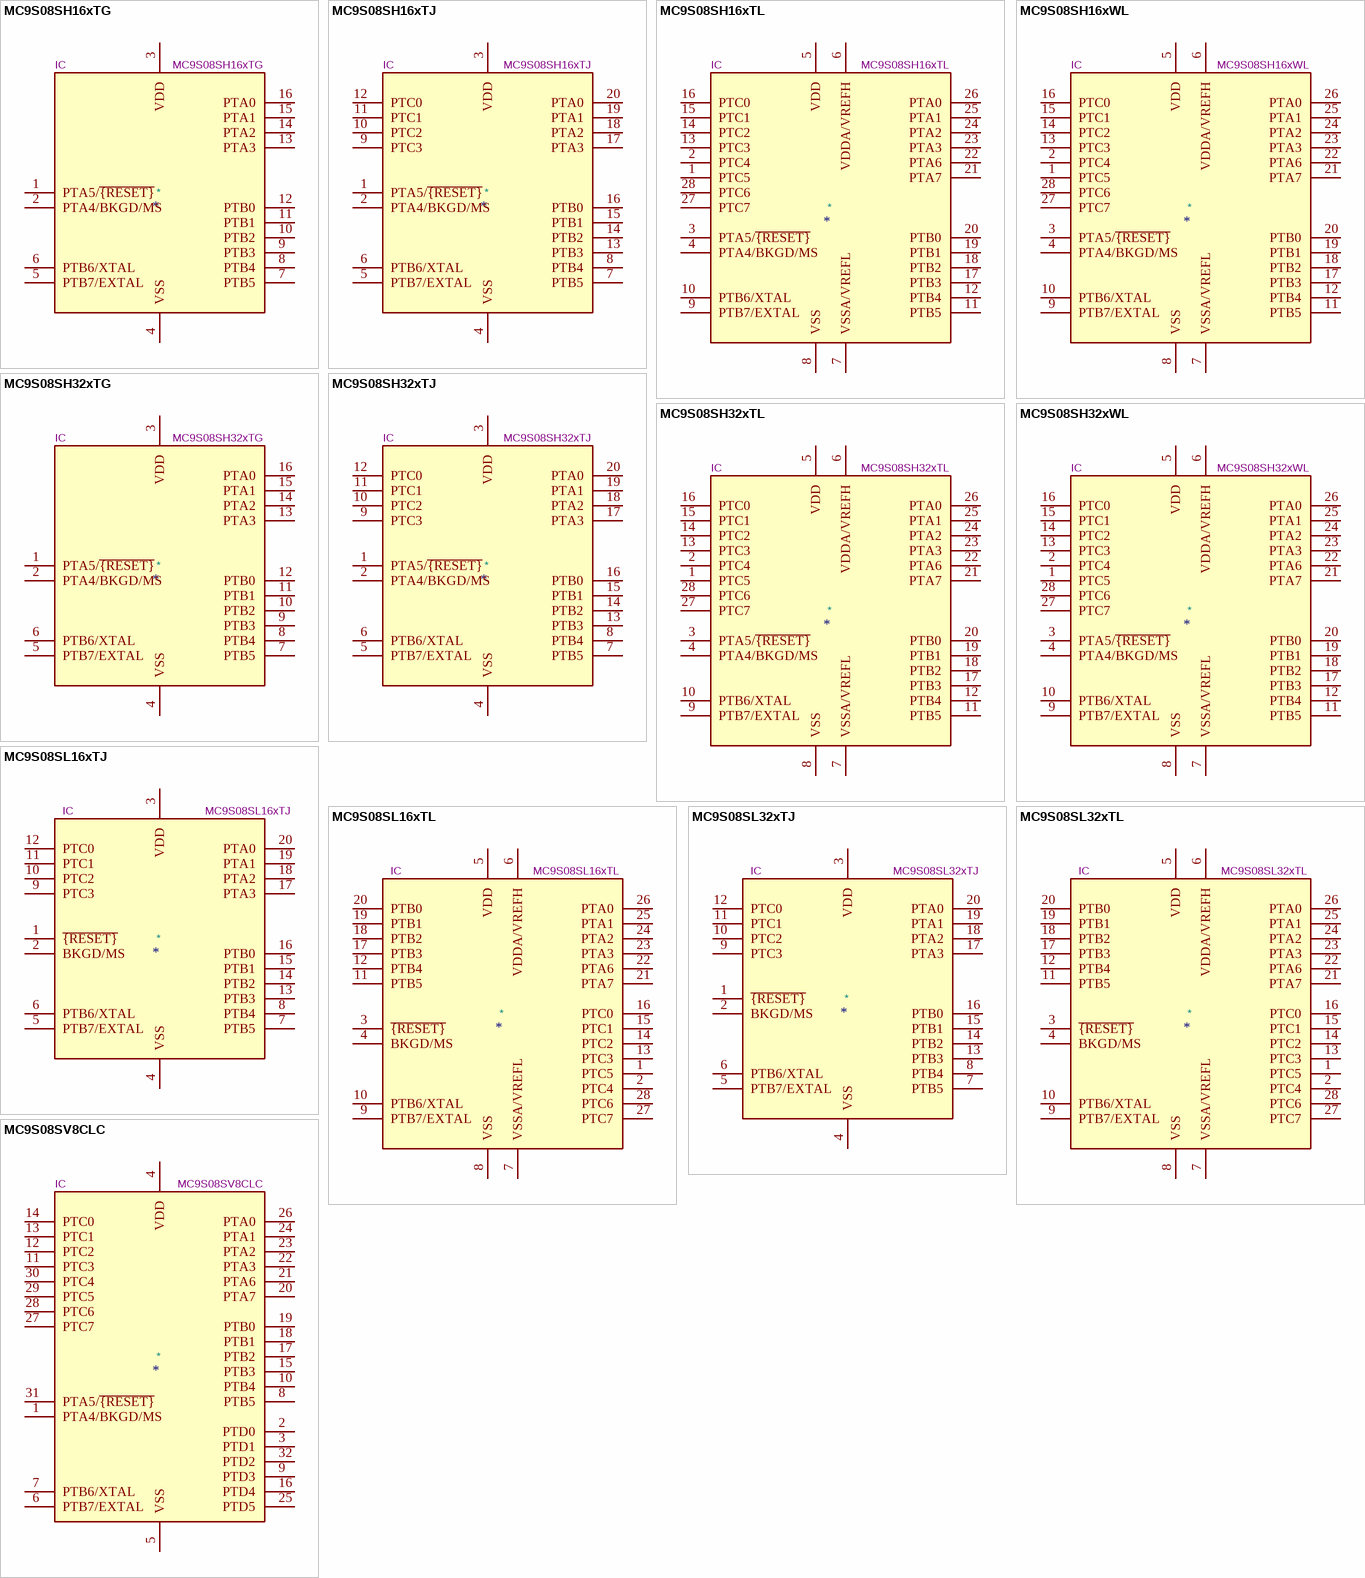
[diagram p18: symbols MC9S08SH16xTG to MC9S08SV8CLC]

## MC9S08SH16xTG
designator *  value MC9S08SH16xTG  Reference: IC
ki_keywords: NXP S08 Microcontroller; ki_description: 8-bit General Purpose Microcontroller, S08 core, 16kB Flash, 1kB RAM, TSSOP-16; ki_fp_filters: TSSOP*4.4x5mm*P0.65mm*; Footprint: Package_SO:TSSOP-16_4.4x5mm_P0.65mm; Datasheet: https://www.nxp.com/docs/en/data-sheet/MC9S08SH32.pdf
pins: 1 PTA5/~{{RESET}}, 2 PTA4/BKGD/MS, 3 VDD, 4 VSS, 5 PTB7/EXTAL, 6 PTB6/XTAL, 7 PTB5, 8 PTB4, 9 PTB3, 10 PTB2, 11 PTB1, 12 PTB0, 13 PTA3, 14 PTA2, 15 PTA1, 16 PTA0

## MC9S08SH16xTJ
designator *  value MC9S08SH16xTJ  Reference: IC
ki_keywords: NXP S08 Microcontroller; ki_description: 8-bit General Purpose Microcontroller, S08 core, 16kB Flash, 1kB RAM, TSSOP-20; ki_fp_filters: TSSOP*4.4x6.5mm*P0.65mm*; Footprint: Package_SO:TSSOP-20_4.4x6.5mm_P0.65mm; Datasheet: https://www.nxp.com/docs/en/data-sheet/MC9S08SH32.pdf
pins: 1 PTA5/~{{RESET}}, 2 PTA4/BKGD/MS, 3 VDD, 4 VSS, 5 PTB7/EXTAL, 6 PTB6/XTAL, 7 PTB5, 8 PTB4, 9 PTC3, 10 PTC2, 11 PTC1, 12 PTC0, 13 PTB3, 14 PTB2, 15 PTB1, 16 PTB0, 17 PTA3, 18 PTA2, 19 PTA1, 20 PTA0

## MC9S08SH16xTL
designator *  value MC9S08SH16xTL  Reference: IC
ki_keywords: NXP S08 Microcontroller; ki_description: 8-bit General Purpose Microcontroller, S08 core, 16kB Flash, 1kB RAM, TSSOP-28; ki_fp_filters: TSSOP*4.4x9.7mm*P0.65mm*; Footprint: Package_SO:TSSOP-28_4.4x9.7mm_P0.65mm; Datasheet: https://www.nxp.com/docs/en/data-sheet/MC9S08SH32.pdf
pins: 1 PTC5, 2 PTC4, 3 PTA5/~{{RESET}}, 4 PTA4/BKGD/MS, 5 VDD, 6 VDDA/VREFH, 7 VSSA/VREFL, 8 VSS, 9 PTB7/EXTAL, 10 PTB6/XTAL, 11 PTB5, 12 PTB4, 13 PTC3, 14 PTC2, 15 PTC1, 16 PTC0, 17 PTB3, 18 PTB2, 19 PTB1, 20 PTB0, 21 PTA7, 22 PTA6, 23 PTA3, 24 PTA2, 25 PTA1, 26 PTA0, 27 PTC7, 28 PTC6

## MC9S08SH16xWL
designator *  value MC9S08SH16xWL  Reference: IC
ki_keywords: NXP S08 Microcontroller; ki_description: 8-bit General Purpose Microcontroller, S08 core, 16kB Flash, 1kB RAM, SOIC-28; ki_fp_filters: SOIC*7.5x17.9mm*P1.27mm*; Footprint: Package_SO:SOIC-28W_7.5x17.9mm_P1.27mm; Datasheet: https://www.nxp.com/docs/en/data-sheet/MC9S08SH32.pdf
pins: 1 PTC5, 2 PTC4, 3 PTA5/~{{RESET}}, 4 PTA4/BKGD/MS, 5 VDD, 6 VDDA/VREFH, 7 VSSA/VREFL, 8 VSS, 9 PTB7/EXTAL, 10 PTB6/XTAL, 11 PTB5, 12 PTB4, 13 PTC3, 14 PTC2, 15 PTC1, 16 PTC0, 17 PTB3, 18 PTB2, 19 PTB1, 20 PTB0, 21 PTA7, 22 PTA6, 23 PTA3, 24 PTA2, 25 PTA1, 26 PTA0, 27 PTC7, 28 PTC6

## MC9S08SH32xTG
designator *  value MC9S08SH32xTG  Reference: IC
ki_keywords: NXP S08 Microcontroller; ki_description: 8-bit General Purpose Microcontroller, S08 core, 32kB Flash, 1kB RAM, TSSOP-16; ki_fp_filters: TSSOP*4.4x5mm*P0.65mm*; Footprint: Package_SO:TSSOP-16_4.4x5mm_P0.65mm; Datasheet: https://www.nxp.com/docs/en/data-sheet/MC9S08SH32.pdf
pins: 1 PTA5/~{{RESET}}, 2 PTA4/BKGD/MS, 3 VDD, 4 VSS, 5 PTB7/EXTAL, 6 PTB6/XTAL, 7 PTB5, 8 PTB4, 9 PTB3, 10 PTB2, 11 PTB1, 12 PTB0, 13 PTA3, 14 PTA2, 15 PTA1, 16 PTA0

## MC9S08SH32xTJ
designator *  value MC9S08SH32xTJ  Reference: IC
ki_keywords: NXP S08 Microcontroller; ki_description: 8-bit General Purpose Microcontroller, S08 core, 32kB Flash, 1kB RAM, TSSOP-20; ki_fp_filters: TSSOP*4.4x6.5mm*P0.65mm*; Footprint: Package_SO:TSSOP-20_4.4x6.5mm_P0.65mm; Datasheet: https://www.nxp.com/docs/en/data-sheet/MC9S08SH32.pdf
pins: 1 PTA5/~{{RESET}}, 2 PTA4/BKGD/MS, 3 VDD, 4 VSS, 5 PTB7/EXTAL, 6 PTB6/XTAL, 7 PTB5, 8 PTB4, 9 PTC3, 10 PTC2, 11 PTC1, 12 PTC0, 13 PTB3, 14 PTB2, 15 PTB1, 16 PTB0, 17 PTA3, 18 PTA2, 19 PTA1, 20 PTA0

## MC9S08SH32xTL
designator *  value MC9S08SH32xTL  Reference: IC
ki_keywords: NXP S08 Microcontroller; ki_description: 8-bit General Purpose Microcontroller, S08 core, 32kB Flash, 1kB RAM, TSSOP-28; ki_fp_filters: TSSOP*4.4x9.7mm*P0.65mm*; Footprint: Package_SO:TSSOP-28_4.4x9.7mm_P0.65mm; Datasheet: https://www.nxp.com/docs/en/data-sheet/MC9S08SH32.pdf
pins: 1 PTC5, 2 PTC4, 3 PTA5/~{{RESET}}, 4 PTA4/BKGD/MS, 5 VDD, 6 VDDA/VREFH, 7 VSSA/VREFL, 8 VSS, 9 PTB7/EXTAL, 10 PTB6/XTAL, 11 PTB5, 12 PTB4, 13 PTC3, 14 PTC2, 15 PTC1, 16 PTC0, 17 PTB3, 18 PTB2, 19 PTB1, 20 PTB0, 21 PTA7, 22 PTA6, 23 PTA3, 24 PTA2, 25 PTA1, 26 PTA0, 27 PTC7, 28 PTC6

## MC9S08SH32xWL
designator *  value MC9S08SH32xWL  Reference: IC
ki_keywords: NXP S08 Microcontroller; ki_description: 8-bit General Purpose Microcontroller, S08 core, 32kB Flash, 1kB RAM, SOIC-28; ki_fp_filters: SOIC*7.5x17.9mm*P1.27mm*; Footprint: Package_SO:SOIC-28W_7.5x17.9mm_P1.27mm; Datasheet: https://www.nxp.com/docs/en/data-sheet/MC9S08SH32.pdf
pins: 1 PTC5, 2 PTC4, 3 PTA5/~{{RESET}}, 4 PTA4/BKGD/MS, 5 VDD, 6 VDDA/VREFH, 7 VSSA/VREFL, 8 VSS, 9 PTB7/EXTAL, 10 PTB6/XTAL, 11 PTB5, 12 PTB4, 13 PTC3, 14 PTC2, 15 PTC1, 16 PTC0, 17 PTB3, 18 PTB2, 19 PTB1, 20 PTB0, 21 PTA7, 22 PTA6, 23 PTA3, 24 PTA2, 25 PTA1, 26 PTA0, 27 PTC7, 28 PTC6

## MC9S08SL16xTJ
designator *  value MC9S08SL16xTJ  Reference: IC
ki_keywords: NXP S08 Microcontroller; ki_description: 8-bit EEPROM with LIN Microcontroller, S08 core, 16kB Flash, 512B RAM, 256B EEPROM, TSSOP-20; ki_fp_filters: TSSOP*4.4x6.5mm*P0.65mm*; Footprint: Package_SO:TSSOP-20_4.4x6.5mm_P0.65mm; Datasheet: https://www.nxp.com/docs/en/data-sheet/MC9S08EL32.pdf
pins: 1 ~{{RESET}}, 2 BKGD/MS, 3 VDD, 4 VSS, 5 PTB7/EXTAL, 6 PTB6/XTAL, 7 PTB5, 8 PTB4, 9 PTC3, 10 PTC2, 11 PTC1, 12 PTC0, 13 PTB3, 14 PTB2, 15 PTB1, 16 PTB0, 17 PTA3, 18 PTA2, 19 PTA1, 20 PTA0

## MC9S08SL16xTL
designator *  value MC9S08SL16xTL  Reference: IC
ki_keywords: NXP S08 Microcontroller; ki_description: 8-bit EEPROM with LIN Microcontroller, S08 core, 16kB Flash, 512B RAM, 256B EEPROM, TSSOP-28; ki_fp_filters: TSSOP*4.4x9.7mm*P0.65mm*; Footprint: Package_SO:TSSOP-28_4.4x9.7mm_P0.65mm; Datasheet: https://www.nxp.com/docs/en/data-sheet/MC9S08EL32.pdf
pins: 1 PTC5, 2 PTC4, 3 ~{{RESET}}, 4 BKGD/MS, 5 VDD, 6 VDDA/VREFH, 7 VSSA/VREFL, 8 VSS, 9 PTB7/EXTAL, 10 PTB6/XTAL, 11 PTB5, 12 PTB4, 13 PTC3, 14 PTC2, 15 PTC1, 16 PTC0, 17 PTB3, 18 PTB2, 19 PTB1, 20 PTB0, 21 PTA7, 22 PTA6, 23 PTA3, 24 PTA2, 25 PTA1, 26 PTA0, 27 PTC7, 28 PTC6

## MC9S08SL32xTJ
designator *  value MC9S08SL32xTJ  Reference: IC
ki_keywords: NXP S08 Microcontroller; ki_description: 8-bit EEPROM with LIN Microcontroller, S08 core, 32kB Flash, 512B RAM, 256B EEPROM, TSSOP-20; ki_fp_filters: TSSOP*4.4x6.5mm*P0.65mm*; Footprint: Package_SO:TSSOP-20_4.4x6.5mm_P0.65mm; Datasheet: https://www.nxp.com/docs/en/data-sheet/MC9S08EL32.pdf
pins: 1 ~{{RESET}}, 2 BKGD/MS, 3 VDD, 4 VSS, 5 PTB7/EXTAL, 6 PTB6/XTAL, 7 PTB5, 8 PTB4, 9 PTC3, 10 PTC2, 11 PTC1, 12 PTC0, 13 PTB3, 14 PTB2, 15 PTB1, 16 PTB0, 17 PTA3, 18 PTA2, 19 PTA1, 20 PTA0

## MC9S08SL32xTL
designator *  value MC9S08SL32xTL  Reference: IC
ki_keywords: NXP S08 Microcontroller; ki_description: 8-bit EEPROM with LIN Microcontroller, S08 core, 32kB Flash, 512B RAM, 256B EEPROM, TSSOP-28; ki_fp_filters: TSSOP*4.4x9.7mm*P0.65mm*; Footprint: Package_SO:TSSOP-28_4.4x9.7mm_P0.65mm; Datasheet: https://www.nxp.com/docs/en/data-sheet/MC9S08EL32.pdf
pins: 1 PTC5, 2 PTC4, 3 ~{{RESET}}, 4 BKGD/MS, 5 VDD, 6 VDDA/VREFH, 7 VSSA/VREFL, 8 VSS, 9 PTB7/EXTAL, 10 PTB6/XTAL, 11 PTB5, 12 PTB4, 13 PTC3, 14 PTC2, 15 PTC1, 16 PTC0, 17 PTB3, 18 PTB2, 19 PTB1, 20 PTB0, 21 PTA7, 22 PTA6, 23 PTA3, 24 PTA2, 25 PTA1, 26 PTA0, 27 PTC7, 28 PTC6

## MC9S08SV8CLC
designator *  value MC9S08SV8CLC  Reference: IC
ki_keywords: NXP S08 Microcontroller; ki_description: 8-bit General Purpose Best-in-Class performance Microcontroller, S08 core, 8kB Flash, 768B RAM, LQFP-32; ki_fp_filters: LQFP*7x7mm*P0.8mm*; Footprint: Package_QFP:LQFP-32_7x7mm_P0.8mm; Datasheet: https://www.nxp.com/docs/en/reference-manual/MC9S08SV16RM.pdf
pins: 1 PTA4/BKGD/MS, 2 PTD0, 3 PTD1, 4 VDD, 5 VSS, 6 PTB7/EXTAL, 7 PTB6/XTAL, 8 PTB5, 9 PTD3, 10 PTB4, 11 PTC3, 12 PTC2, 13 PTC1, 14 PTC0, 15 PTB3, 16 PTD4, 17 PTB2, 18 PTB1, 19 PTB0, 20 PTA7, 21 PTA6, 22 PTA3, 23 PTA2, 24 PTA1, 25 PTD5, 26 PTA0, 27 PTC7, 28 PTC6, 29 PTC5, 30 PTC4, 31 PTA5/~{{RESET}}, 32 PTD2

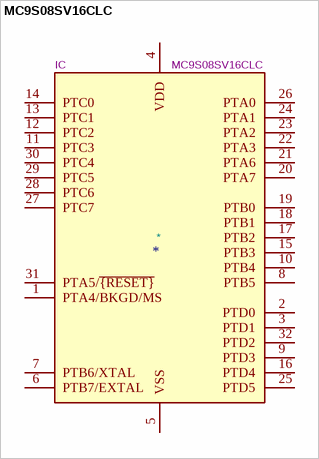
[diagram p19: symbol MC9S08SV16CLC]

## MC9S08SV16CLC
designator *  value MC9S08SV16CLC  Reference: IC
ki_keywords: NXP S08 Microcontroller; ki_description: 8-bit General Purpose Best-in-Class performance Microcontroller, S08 core, 16kB Flash, 1kB RAM, LQFP-32; ki_fp_filters: LQFP*7x7mm*P0.8mm*; Footprint: Package_QFP:LQFP-32_7x7mm_P0.8mm; Datasheet: https://www.nxp.com/docs/en/reference-manual/MC9S08SV16RM.pdf
pins: 1 PTA4/BKGD/MS, 2 PTD0, 3 PTD1, 4 VDD, 5 VSS, 6 PTB7/EXTAL, 7 PTB6/XTAL, 8 PTB5, 9 PTD3, 10 PTB4, 11 PTC3, 12 PTC2, 13 PTC1, 14 PTC0, 15 PTB3, 16 PTD4, 17 PTB2, 18 PTB1, 19 PTB0, 20 PTA7, 21 PTA6, 22 PTA3, 23 PTA2, 24 PTA1, 25 PTD5, 26 PTA0, 27 PTC7, 28 PTC6, 29 PTC5, 30 PTC4, 31 PTA5/~{{RESET}}, 32 PTD2